# EAGLE library part MKL27Z256VLH4 (library Freescale)
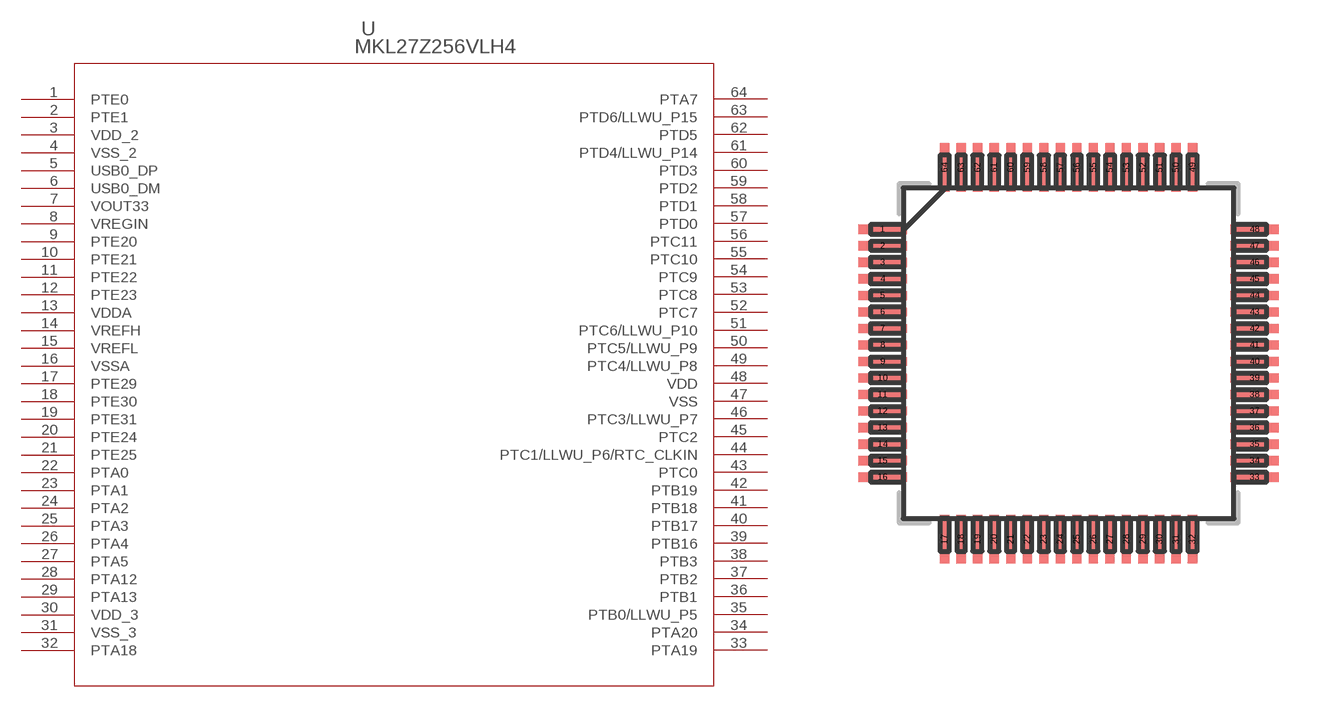
[diagram p0: symbol with the pads of LQFP-64_10X10X1.6; footprint LQFP-64_10X10X1.6]

Designator prefix U

## MKL27Z256VLH4 (CPU: ARM Cortex-M0+; FLASHKB: 256; MANUFACTURER_PART_NUMBER: mkl27z256vlh4; MAXFREQUENCY: 48; PACKAGE: LQFP; PINCOUNT: 64; SRAMKB: 32; VENDOR: FREESCALE)  [LQFP-64_10X10X1.6]
1  PTE0
2  PTE1
3  VDD_2  pwr
4  VSS_2  pwr
5  USB0_DP  pas
6  USB0_DM  pas
7  VOUT33  out
8  VREGIN  in
9  PTE20
10  PTE21
11  PTE22
12  PTE23
13  VDDA  pwr
14  VREFH  pwr
15  VREFL  pwr
16  VSSA  pwr
17  PTE29
18  PTE30
19  PTE31
20  PTE24
21  PTE25
22  PTA0
23  PTA1
24  PTA2
25  PTA3
26  PTA4
27  PTA5
28  PTA12
29  PTA13
30  VDD_3  pwr
31  VSS_3  pwr
32  PTA18
33  PTA19
34  PTA20
35  PTB0/LLWU_P5
36  PTB1
37  PTB2
38  PTB3
39  PTB16
40  PTB17
41  PTB18
42  PTB19
43  PTC0
44  PTC1/LLWU_P6/RTC_CLKIN
45  PTC2
46  PTC3/LLWU_P7
47  VSS  pwr
48  VDD  pwr
49  PTC4/LLWU_P8
50  PTC5/LLWU_P9
51  PTC6/LLWU_P10
52  PTC7
53  PTC8
54  PTC9
55  PTC10
56  PTC11
57  PTD0
58  PTD1
59  PTD2
60  PTD3
61  PTD4/LLWU_P14
62  PTD5
63  PTD6/LLWU_P15
64  PTA7

## Footprint LQFP-64_10X10X1.6 (pad centres in mm)
smd 1.473 x 0.279: 1 -5.625,3.75; 2 -5.625,3.25; 3 -5.625,2.75; 4 -5.625,2.25; 5 -5.625,1.75; 6 -5.625,1.25; 7 -5.625,0.75; 8 -5.625,0.25; 9 -5.625,-0.25; 10 -5.625,-0.75; 11 -5.625,-1.25; 12 -5.625,-1.75; 13 -5.625,-2.25; 14 -5.625,-2.75; 15 -5.625,-3.25; 16 -5.625,-3.75; 33 5.625,-3.75; 34 5.625,-3.25; 35 5.625,-2.75; 36 5.625,-2.25; 37 5.625,-1.75; 38 5.625,-1.25; 39 5.625,-0.75; 40 5.625,-0.25; 41 5.625,0.25; 42 5.625,0.75; 43 5.625,1.25; 44 5.625,1.75; 45 5.625,2.25; 46 5.625,2.75; 47 5.625,3.25; 48 5.625,3.75
smd 0.279 x 1.473: 17 -3.75,-5.625; 18 -3.25,-5.625; 19 -2.75,-5.625; 20 -2.25,-5.625; 21 -1.75,-5.625; 22 -1.25,-5.625; 23 -0.75,-5.625; 24 -0.25,-5.625; 25 0.25,-5.625; 26 0.75,-5.625; 27 1.25,-5.625; 28 1.75,-5.625; 29 2.25,-5.625; 30 2.75,-5.625; 31 3.25,-5.625; 32 3.75,-5.625; 49 3.75,5.625; 50 3.25,5.625; 51 2.75,5.625; 52 2.25,5.625; 53 1.75,5.625; 54 1.25,5.625; 55 0.75,5.625; 56 0.25,5.625; 57 -0.25,5.625; 58 -0.75,5.625; 59 -1.25,5.625; 60 -1.75,5.625; 61 -2.25,5.625; 62 -2.75,5.625; 63 -3.25,5.625; 64 -3.75,5.625